# Altium integrated library Inductors.IntLib: 6 symbols
Pins are listed as number, name and electrical type; pins without a type are passive.

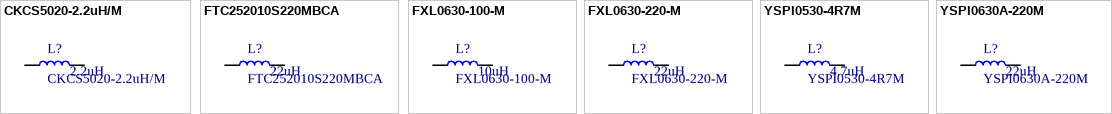
[diagram p0: symbols CKCS5020-2.2uH/M to YSPI0630A-220M]

## CKCS5020-2.2uH/M
designator L?  值: 2.2uH
CENKER(岑科) 2.2uH ±20%; 封装: SMD,5x5mm; 类别: 功率电感; 子类别: 磁胶屏蔽电感; 额定电流: 2.7A; 直流电阻: 40mΩ; 制造商: CENKER(岑科); 精度: ±20%
footprint CENKER-5020 (CENKER(岑科) 5020 推荐焊盘)
pins: 2, 2

## FTC252010S220MBCA
designator L?  值: 22uH
cjiang(长江微电) 22uH ±20% 850mA; 封装: SMD,2x2.5mm; 类别: 功率电感; 子类别: 一体成型电感; 直流电阻: 1.1Ω; 制造商: cjiang(长江微电); 精度: ±20%; 额定电流: 850mA
footprint cjiang-2520 (cjiang(长江微电) 2520 推荐焊盘 （高度未作区分，封装都相同）)
pins: 2, 2

## FXL0630-100-M
designator L?  值: 10uH
cjiang(长江微电) 10uH ±20%; 封装: SMD,6.6x7mm; 类别: 功率电感; 子类别: 一体成型电感; 额定电流: 4.5A; 直流电阻: 68mΩ; 制造商: cjiang(长江微电); 精度: ±20%
footprint cjiang-0630 (cjiang(长江微电) 0630 推荐焊盘)
pins: 2, 2

## FXL0630-220-M
designator L?  值: 22uH
cjiang(长江微电) 22uH ±20% 2.5A; 封装: SMD,6.6x7mm; 类别: 功率电感; 子类别: 一体成型电感; 直流电阻: 200mΩ; 制造商: cjiang(长江微电); 精度: ±20%; 额定电流: 2.5A
footprint cjiang-0630 (cjiang(长江微电) 0630 推荐焊盘)
pins: 2, 2

## YSPI0530-4R7M
designator L?  值: 4.7uH
YJYCOIN(益嘉源) 4.7uH ±20%; 封装: SMD,5.4x5.2x3mm; 类别: 功率电感; 子类别: 一体成型电感; 额定电流: 4A; 直流电阻: 46mΩ; 制造商: YJYCOIN(益嘉源); 精度: ±20%
footprint YJYCOIN-0530 (YJYCOIN(益嘉源) 5020 推荐焊盘  5.2*5.4mm 暂时缺模型)
pins: 2, 2

## YSPI0630A-220M
designator L?  值: 22uH
YJYCOIN(益嘉源) 22uH ±20%; 封装: SMD,6.6x7.1mm; 类别: 功率电感; 子类别: 一体成型电感; 额定电流: 3A; 直流电阻: 130mΩ; 制造商: YJYCOIN(益嘉源); 精度: ±20%
footprint YJYCOIN-0630 (YJYCOIN(益嘉源) 0630 推荐焊盘  借用了其他的模型，模型尺寸是6.6*7.2，实际是6.6*7.1)
pins: 2, 2